# Altium schematic symbol library Sonar.SchLib: 9 symbols
Pins are listed as number, name and electrical type; pins without a type are passive.

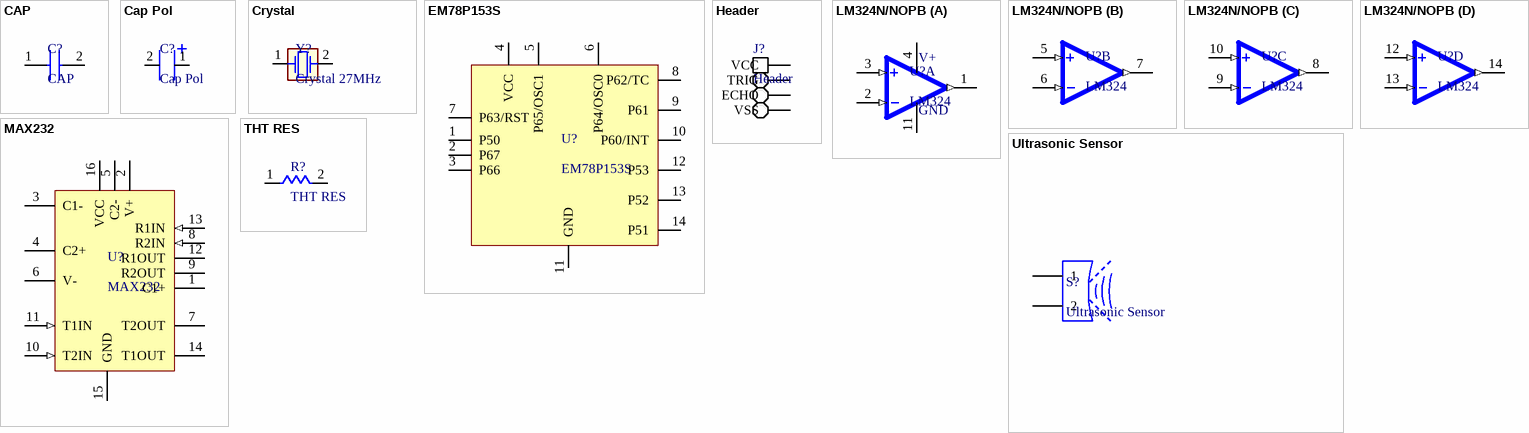
[diagram p0: symbols CAP to Ultrasonic Sensor]

## CAP
designator C?
Capacitor; ComponentLink1Description: Satın Alma Linki; ComponentLink1URL: https://www.robotistan.com/10nf-seramik-kondansator-paketi-10-adet; ComponentLink2Description: Satın Alma Linki; ComponentLink2URL: https://www.robotistan.com/1nf-seramik-kondansator-paketi-10-adet
footprint CAP
pins: 1, 2

## Cap Pol
designator C?
MZ1V687M12020PH - CAP.EL.680uF 35V 12.5x20 5MM 105C TB SAMWHA; ComponentLink1Description: Satın Alma Linki; ComponentLink1URL: https://www.robotistan.com/50v-1-uf-kondansator; ComponentLink2Description: Datasheet; ComponentLink2URL: https://www.jameco.com/Jameco/Products/ProdDS/29831.pdf
footprint CAP.EL.
pins: 1, 2

## Crystal
designator Y?, comment Crystal 27MHz
27.000 MHz Kristal HC-49S; ComponentLink1Description: Satın Alma Linki; ComponentLink1URL: https://www.direnc.net/27000-mhz-kristal-hc-49s-50; ComponentLink2Description: Datasheet; ComponentLink2URL: https://www.newteck-ci.com.br/datasheet/20140520084905.pdf
footprint Crsytal
pins: 1 (power) "Regulator Input Supply. Bypass IN to GND with a 1 uF or greater capacitor.", 2 (power) "Ground."

## EM78P153S
designator U?
ComponentLink1Description: Satın Alma Linki; ComponentLink1URL: *; ComponentLink2Description: Datasheet; ComponentLink2URL: http://www.agspecinfo.com/pdfs/E/EM78P153.PDF
footprint EM78P153S (SOP, 14-Leads, Body 8,65x3,90mm, Pitch 1,27mm, IPC Medium Density)
pins: 1 P50, 2 P67, 3 P66, 4 VCC, 5 P65/OSC1, 6 P64/OSC0, 7 P63/RST, 8 P62/TC, 9 P61, 10 P60/INT, 11 GND, 12 P53, 13 P52, 14 P51

## Header
designator J?
ComponentLink3Description: Satın Alma Linki; ComponentLink3URL: https://www.robotistan.com/1x40-180-12mm
footprint Header 1x4
pins: 1 VCC, 2 TRIG, 3 ECHO, 4 VSS

## LM324N/NOPB
designator U?, comment LM324
4-Channel industry standard operational amplifier 14-PDIP 0 to 70; MP: LM324N; MF: Texas Instruments; Purchase-URL: https://pricing.snapeda.com/search/part/LM324N/?ref=eda; Package: PDIP-14 Texas Instruments; Price: None; Value: *; Availability: Good; Check_prices: https://www.snapeda.com/parts/LM324N/Texas%20Instruments/view-part/295/?ref=eda; SnapEDA_Link: https://www.snapeda.com/parts/LM324N/Texas%20Instruments/view-part/295/?ref=snap; ComponentLink1Description: Satın Alma Linki; ComponentLink1URL: https://www.robotistan.com/lm324-dip14?language=tr&h=409e2aff&gclid=CjwKCAjwxOCRBhA8EiwA0X8hiwXGgK4v1rrybFC684ThaUQRfGP744yHBnQdMK1VYz9g8hevPAV6yhoCZSUQAvD_BwE; ComponentLink2Description: Datasheet; ComponentLink2URL: https://www.ti.com/lit/ds/symlink/lm124-n.pdf
footprint LM324 (DIP, 14-Leads, Body 19.7x6.6mm, Pitch 2.54mm)
part A pins: 1 1OUT (out), 2 1IN- (in), 3 1IN+ (in), 4 V+ (power), 11 GND (power)
part B pins: 5 2IN+ (in), 6 2IN- (in), 7 2OUT (out)
part C pins: 8 3OUT (out), 9 3IN- (in), 10 3IN+ (in)
part D pins: 12 4IN+ (in), 13 4IN- (in), 14 4OUT (out)

## MAX232
designator U?
Multichannel RS-232 Driver/Receiver, 5 V, 0 to 70 degC, 16-Pin SOIC (S16+3), RoHS, Tube; Manufacturer: Maxim; Package Version: Rev. G, 01/2016; Min Supply Voltage: 4.5V; Max Supply Voltage: 5.5V; Receivers: 2; Propagation Delay: 10us; Nominal Supply Current: 10mA; Data Rate: 120Kbps; Nominal Supply Voltage: 5V; Package URL: http://pdfserv.maximintegrated.com/package_dwgs/21-0041.PDF; Min Operating Temperature: 0°C; Datasheet URL: https://datasheets.maximintegrated.com/en/ds/MAX220-MAX249.pdf; Package Quantity: 50; Case/Package: SOIC; Package Description: 16-Pin Small Outline Integrated Circuit, Body 9.9 x 3.9 mm, Pitch 1.27 mm; Package Reference: S16+5; Interface: RS-232; Pins: 16; Manufacturer URL: http://www.maximintegrated.com/; Channels: 2; RoHS Compliant: True; Mounting Technology: SM; Packaging: Rail/Tube; Max Operating Temperature: 70°C; Datasheet Version: Rev. 17, 01/2015; ComponentLink1Description: Satın Alma Linki; ComponentLink1URL: https://www.robotistan.com/max232-dip16; ComponentLink2Description: Datasheet; ComponentLink2URL: https://datasheets.maximintegrated.com/en/ds/MAX220-MAX249.pdf
footprint MAX232
pins: 1 C1+, 2 V+ (power), 3 C1-, 4 C2+, 5 C2-, 6 V- (power), 7 T2OUT (hiz), 8 R2IN (in), 9 R2OUT (hiz), 10 T2IN (in), 11 T1IN (in), 12 R1OUT (hiz), 13 R1IN (in), 14 T1OUT (hiz), 15 GND (power), 16 VCC (power)

## THT RES
designator R?
ComponentLink1Description: Satın Alma Linki; ComponentLink1URL: https://www.robotistan.com/14w-10k-direnc-paketi-10-adet; ComponentLink2Description: Satın Alma Linki; ComponentLink2URL: https://www.robotistan.com/14w-56k-direnc-paketi-10-adet; ComponentLink3Description: Satın Alma Linki; ComponentLink3URL: https://www.robotistan.com/14w-1k-direnc-paketi-10-adet; ComponentLink4Description: Satın Alma Linki; ComponentLink4URL: https://www.robomarket.com.tr/6-2k-direnc-1-adet-1-4w; ComponentLink5Description: Satın Alma Linki; ComponentLink5URL: https://www.robotistan.com/12w-75k-10-adet; ComponentLink6Description: Satın Alma Linki; ComponentLink6URL: https://www.direnc.net/75k-14w-metalfilm-direnc-paketi-100-adet-1?language=tr&h=cb2d2062; ComponentLink7Description: Satın Alma Linki; ComponentLink7URL: https://www.robotistan.com/14w-4k7-direnc-paketi-10-adet; ComponentLink8Description: Satın Alma Linki; ComponentLink8URL: https://www.robotistan.com/2w-120k; ComponentLink9Description: Satın Alma Linki; ComponentLink9URL: https://www.robotistan.com/14w-3k9-direnc-paketi-10-adet?language=tr&h=0f40f5ee&gclid=CjwKCAjwxOCRBhA8EiwA0X8hi8jDuTXAWIdHih4LhQcB3YXTjEJ8OgB0uW3rlfstCae65K6p5gflnBoC2EgQAvD_BwE; ComponentLink10Description: Satın Alma Linki; ComponentLink10URL: https://www.motorobit.com/urun/3-3m-1-4w-direnc-10-adet
footprint THT Res
pins: 1, 2

## Ultrasonic Sensor
designator S?
ComponentLink1Description: Satın Alma Linki; ComponentLink1URL: https://www.robotistan.com/suya-dayanikli-ultrasonik-sensor-10mm?language=tr&h=b3c9ab81; ComponentLink2Description: Satın Alma Linki; ComponentLink2URL: https://www.robotistan.com/rt40k-ultrasonik-sensor-16mm; ComponentLink3Description: Datasheet; ComponentLink3URL: https://tr.aliexpress.com/item/33039788263.html?spm=a2g0o.productlist.0.0.66bc1f47oNyabD&algo_pvid=28f77d51-3c5b-4650-aee5-95afa2ae2236&algo_exp_id=28f77d51-3c5b-4650-aee5-95afa2ae2236-42&pdp_ext_f=%7B%22sku_id%22%3A%2267411356863%22%7D&pdp_pi=-1%3B17.15%3B-1%3B-1%40salePrice%3BTRY%3Bsearch-mainSearch
footprint Ultrasonic Sensor
pins: 1, 2